# EAGLE library part TLC59281 (library PMIC)
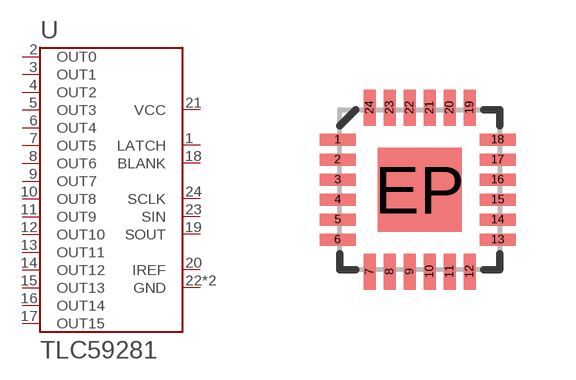
[diagram p0: symbol with the pads of QFN-24; footprint QFN-24]

Designator prefix U

## TLC59281  [QFN-24]
1  LATCH
2  OUT0
3  OUT1
4  OUT2
5  OUT3
6  OUT4
7  OUT5
8  OUT6
9  OUT7
10  OUT8
11  OUT9
12  OUT10
13  OUT11
14  OUT12
15  OUT13
16  OUT14
17  OUT15
18  BLANK
19  SOUT
20  IREF
21  VCC
22  GND
23  SIN
24  SCLK
EP  GND

## Footprint QFN-24 (pad centres in mm)
smd 0.9 x 0.3: 1 -2.05,1.25; 2 -2.05,0.75; 3 -2.05,0.25; 4 -2.05,-0.25; 5 -2.05,-0.75; 6 -2.05,-1.25; 13 1.95,-1.25; 14 1.95,-0.75; 15 1.95,-0.25; 16 1.95,0.25; 17 1.95,0.75; 18 1.95,1.25
smd 0.3 x 0.9: 7 -1.25,-2.05; 8 -0.75,-2.05; 9 -0.25,-2.05; 10 0.25,-2.05; 11 0.75,-2.05; 12 1.25,-2.05; 19 1.25,2.05; 20 0.75,2.05; 21 0.25,2.05; 22 -0.25,2.05; 23 -0.75,2.05; 24 -1.25,2.05
smd 2.1 x 2.1: EP 0,0